# Altium footprint library 智能车主板.PcbLib: 40 footprints (part 1 of 3)
Each footprint in its own frame and in the unit in brackets; x right, y up, seen from the top. Pads: shape width x height; smd on the part's side, far side on the other; paste and mask are expansions set on the pad; w line width, h text height; cw(c..) or ccw(c..) is an arc to the next point about the centre after c.
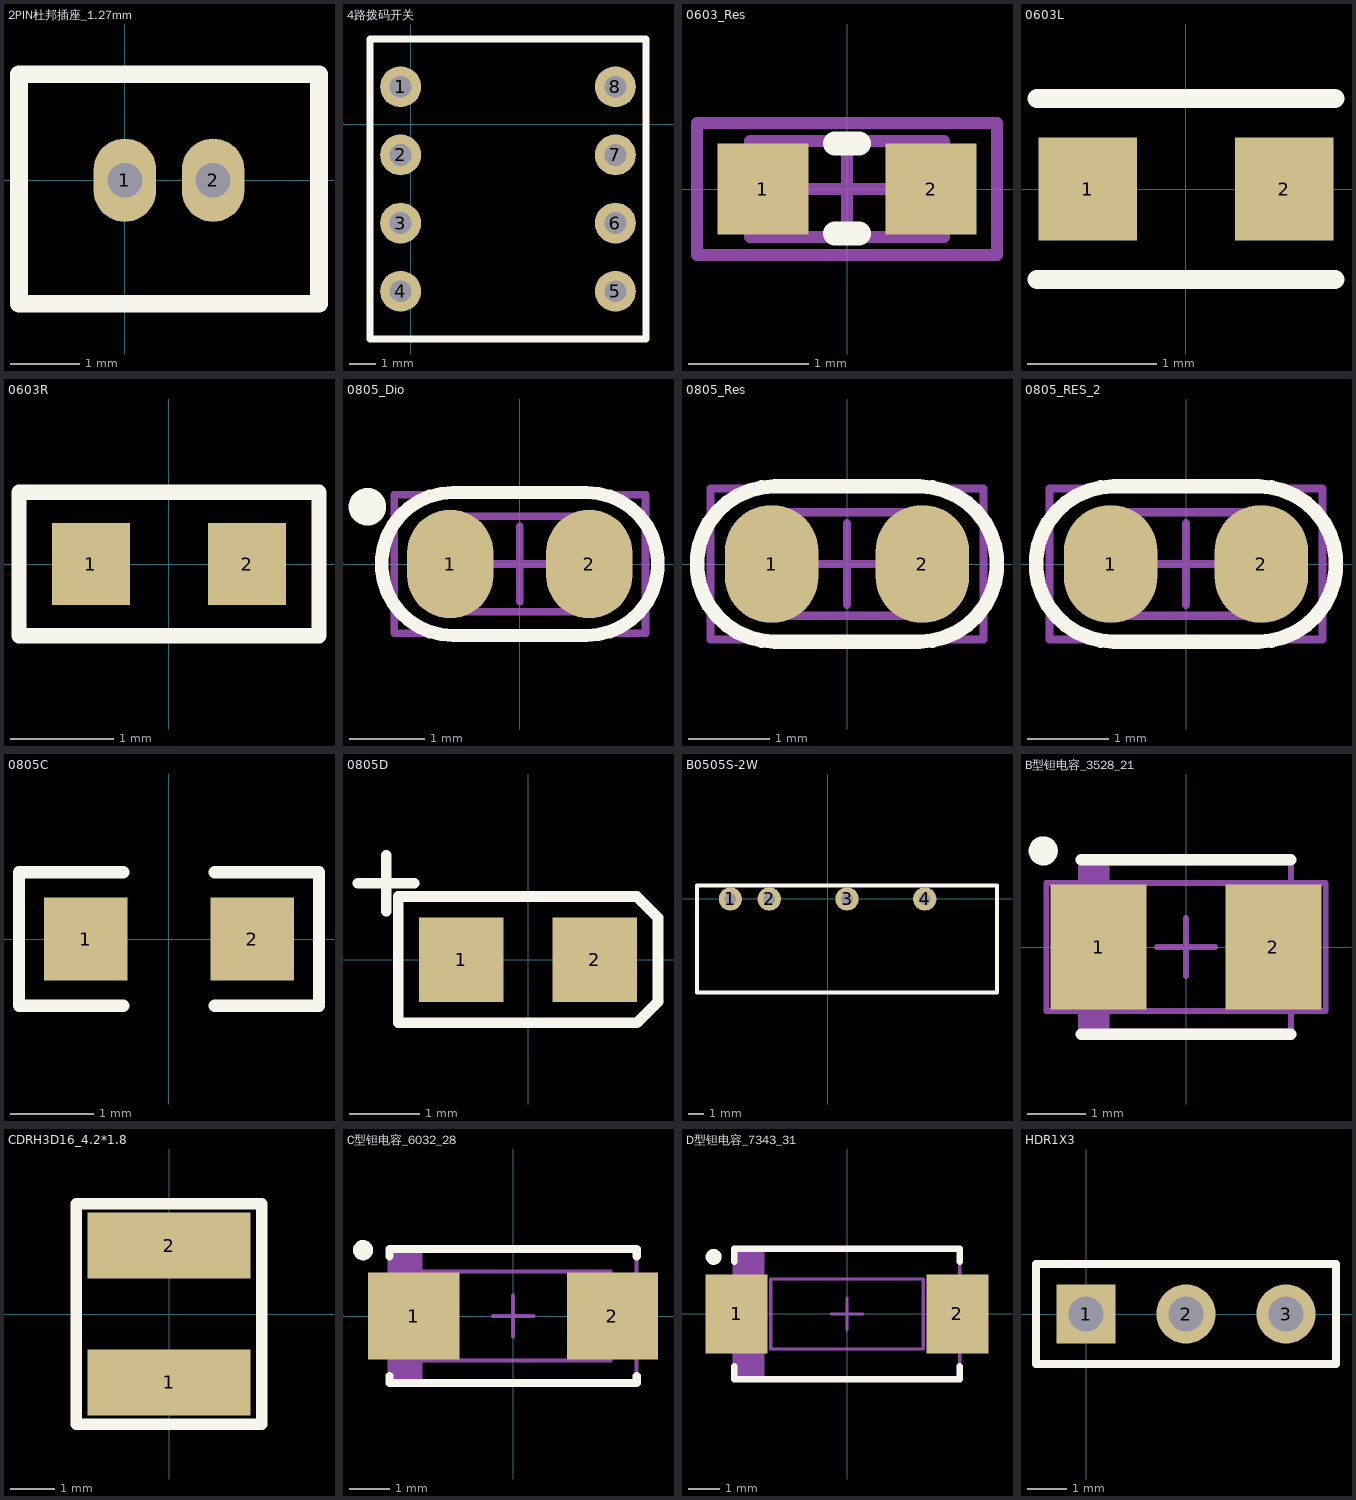
[diagram p0: the footprints below, top view; thin cyan lines are the x and y axes]

## 2PIN杜邦插座_1.27mm [mm]
pads (2):
  oval 0.9x1.2 hole 0.5: 1(0,0) 2(1.27,0)
Top Overlay:
  lines w0.254: -1.524,-1.778 2.794,-1.778 2.794,1.524 -1.524,1.524 -1.524,-1.778

## 4路拨码开关 [mil]
pads (8):
  round 60 hole 32.01: 1(-15,55) 2(-15,-45) 3(-15,-145) 4(-15,-245) 5(299.96,-245) 6(299.96,-145) 7(299.96,-45) 8(299.96,55)
Top Overlay:
  lines w10: -60.04,-315 344.96,-315 344.96,125 -60.04,125 -60.04,-315

## 0603_Res [mil]
height 19.68
pads (2):
  rect 30x30 smd: 1(-27.56,0) 2(27.56,0)
Top Overlay:
  lines w7.87: -3.94,-14.57 3.94,-14.57 ; -3.94,14.96 3.94,14.96
Mechanical 13:
  lines w3.94: -31.89,-15.75 -31.89,15.75 31.89,15.75 31.89,-15.75 -31.89,-15.75
Mechanical 15:
  lines w3.94: -15.75,0 15.75,0 ; 0,-15.75 0,15.75 ; -49.21,-21.65 49.21,-21.65 49.21,21.65 -49.21,21.65 -49.21,-21.65
3D body "RES0603.STEP": height 17.72, standoff 0, extent -31.49,-16.13 31.5,16.15

## 0603L [mm]
pads (2):
  rect 0.76x0.8 smd: 1(-0.76,0) 2(0.76,0)
Top Overlay:
  lines w0.15: -1.15,-0.7 1.15,-0.7 ; -1.15,0.7 1.15,0.7

## 0603R [mm]
pads (2):
  rect 0.76x0.8 smd: 1(-0.76,0) 2(0.76,0)
Top Overlay:
  lines w0.15: -1.46,-0.7 -1.46,0.7 1.46,0.7 1.46,-0.7 -1.46,-0.7

## 0805_Dio [mm] "Chip Capacitor, 2-Leads, Body 2.0x1.3mm, IPC Medium Density"
height 0.6
pads (2):
  oval 1.15x1.45 smd: 1(-0.925,0) 2(0.925,0)
Top Overlay:
  circle w0.25: c-2.03,0.762 r0.125
  lines w0.178: -0.889,-0.953 cw(c-0.889,0) -0.889,0.953 0.889,0.953 cw(c0.889,0) 0.889,-0.953 -0.853,-0.953
Mechanical 13:
  lines w0.1: -1,-0.635 1,-0.635 1,0.635 -1,0.635 -1,-0.635
Mechanical 15:
  lines w0.1: -0.5,0 0.5,0 ; 0,-0.5 0,0.5 ; -1.675,-0.925 1.675,-0.925 1.675,0.925 -1.675,0.925 -1.675,-0.925
3D body: height 0.6, standoff 0, extent -1,-0.635 1,0.635

## 0805_Res [mm]
height 0.9
pads (2):
  oval 1.15x1.45 smd: 1(-0.925,0) 2(0.925,0)
Top Overlay:
  lines w0.178: -0.889,-0.953 cw(c-0.889,0) -0.889,0.953 0.889,0.953 cw(c0.889,0) 0.889,-0.953 -0.853,-0.953
Mechanical 13:
  lines w0.1: -1,-0.635 -1,0.635 1,0.635 1,-0.635 -1,-0.635
Mechanical 15:
  lines w0.1: -0.5,0 0.5,0 ; 0,-0.5 0,0.5 ; -1.675,-0.925 -1.675,0.925 1.675,0.925 1.675,-0.925 -1.675,-0.925
3D body: height 0.6, standoff 0, extent -1,-0.635 1,0.635

## 0805_RES_2 [mm]
pads (2):
  oval 1.15x1.45 smd: 1(-0.925,0) 2(0.925,0)
Top Overlay:
  lines w0.178: -0.889,-0.953 cw(c-0.889,0) -0.889,0.953 0.889,0.953 cw(c0.889,0) 0.889,-0.953 -0.853,-0.953
Mechanical 13:
  lines w0.1: -1,-0.635 1,-0.635 1,0.635 -1,0.635 -1,-0.635
Mechanical 15:
  lines w0.1: -0.5,0 0.5,0 ; 0,-0.5 0,0.5 ; -1.675,-0.925 1.675,-0.925 1.675,0.925 -1.675,0.925 -1.675,-0.925
3D body: height 0.6, standoff 0, extent -1,-0.635 1,0.635

## 0805C [mm]
pads (2):
  rect 1x1 smd: 1(-1,0) 2(1,0)
Top Overlay:
  lines w0.15: -0.55,-0.8 -1.8,-0.8 -1.8,0.8 -0.55,0.8 ; 0.55,-0.8 1.8,-0.8 1.8,0.8 0.55,0.8

## 0805D [mm]
pads (2):
  rect 1.2x1.2 smd: 1(-0.95,0) 2(0.95,0)
Top Overlay:
  lines w0.15: -2.42,1.09 -1.62,1.09 ; -2.02,0.69 -2.02,1.49 ; -1.85,-0.9 1.55,-0.9 1.85,-0.6 1.85,0.6 1.55,0.9 -1.85,0.9 -1.85,-0.9

## B0505S-2W [mil]
height 98.43
pads (4):
  round 60 hole 30: 1(-250,0) 2(-150,0) 3(50,0) 4(250,0)
Top Overlay:
  lines w10: -336,-241 436,-241 436,35 -336,35 -336,-241

## B型钽电容_3528_21 [mm] "Molded Capacitor, 2-Leads, Body 3.5x2.8mm, IPC Medium Density"
height 1.9
pads (2):
  rect 1.65x2.15 smd: 1(-1.5,0) 2(1.5,0)
Top Overlay:
  circle w0.25: c-2.45,1.65 r0.125
  lines w0.2: -1.8,-1.5 1.8,-1.5 ; -1.8,1.5 1.8,1.5
Mechanical 13:
  rectangle: -1.8,-1.45 -1.316,1.45
  lines w0.1: -1.8,-1.45 -1.8,1.45 1.8,1.45 1.8,-1.45 -1.8,-1.45
Mechanical 15:
  lines w0.1: -0.5,0 0.5,0 ; 0,-0.5 0,0.5 ; -2.4,-1.1 -2.4,1.1 2.4,1.1 2.4,-1.1 -2.4,-1.1
3D body: height 1.9, standoff 0, extent -1.8,-1.45 1.8,1.45

## CDRH3D16_4.2*1.8 [mm]
height 0.9
pads (2):
  rect 3.7x1.5 smd: 1(0,-1.55) 2(0,1.55)
Top Overlay:
  lines w0.254: -2.1,-2.5 2.1,-2.5 2.1,2.5 -2.1,2.5 -2.1,0 -2.1,-2.5

## C型钽电容_6032_28 [mm] "Molded Capacitor, 2-Leads, Body 6.0x3.2mm, IPC Medium Density"
height 2.6
pads (2):
  rect 2.25x2.15 smd: 1(-2.45,0) 2(2.45,0)
Top Overlay:
  circle w0.25: c-3.7,1.625 r0.125
  lines w0.2: -3.05,-1.475 -3.05,-1.65 3.05,-1.65 3.05,-1.475 ; -3.05,1.475 -3.05,1.65 3.05,1.65 3.05,1.475
Mechanical 13:
  rectangle: -3.05,-1.65 -2.23,1.65
  lines w0.1: -3.05,-1.65 -3.05,1.65 3.05,1.65 3.05,-1.65 -3.05,-1.65
Mechanical 15:
  lines w0.1: -0.5,0 0.5,0 ; 0,-0.5 0,0.5 ; -2.4,-1.1 -2.4,1.1 2.4,1.1 2.4,-1.1 -2.4,-1.1
3D body "User Library-CaseC_6032-28.STEP": height 2.5, standoff 0, extent -3,-1.6 3,1.6

## D型钽电容_7343_31 [mm] "Molded Capacitor, 2-Leads, Body 7.3x4.3mm, IPC Medium Density"
height 2.9
pads (2):
  rect 1.95x2.5 smd: 1(-3.475,0) 2(3.475,0)
Top Overlay:
  circle w0.25: c-4.2,1.8 r0.125
  lines w0.2: -3.55,-1.65 -3.55,-2.05 3.55,-2.05 3.55,-1.65 ; -3.55,1.65 -3.55,2.05 3.55,2.05 3.55,1.65
Mechanical 13:
  rectangle: -3.55,-2.05 -2.595,2.05
  lines w0.1: -3.55,-2.05 -3.55,2.05 3.55,2.05 3.55,-2.05 -3.55,-2.05
Mechanical 15:
  lines w0.1: -0.5,0 0.5,0 ; 0,-0.5 0,0.5 ; -2.4,-1.1 -2.4,1.1 2.4,1.1 2.4,-1.1 -2.4,-1.1
3D body "User Library-CaseD_7343-31.STEP": height 2.8, standoff 0, extent -3.65,-2.15 3.65,2.15

## HDR1X3 [mm] "Connector; Header; 3 Position"
height 2.5
pads (3):
  rect 1.5x1.5 hole 0.9: 1(0,0)
  round 1.5 hole 0.9: 2(2.54,0) 3(5.08,0)
Top Overlay:
  lines w0.2: -1.27,-1.27 6.35,-1.27 6.35,1.27 -1.27,1.27 -1.27,-1.27